# Altium schematic symbol library RT6208GE.Schlib: 1 symbol
Pins are listed as number, name and electrical type; pins without a type are passive.

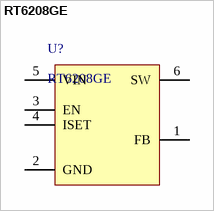
[diagram p0: symbol RT6208GE]

## RT6208GE
designator U?
Buck Switching Regulator IC Positive Adjustable 0.8V 1 Output 100mA SOT-23-6
pins: 1 FB, 2 GND, 3 EN, 4 ISET, 5 VIN, 6 SW